# EAGLE library part AD7357 (library BeaverBoard)
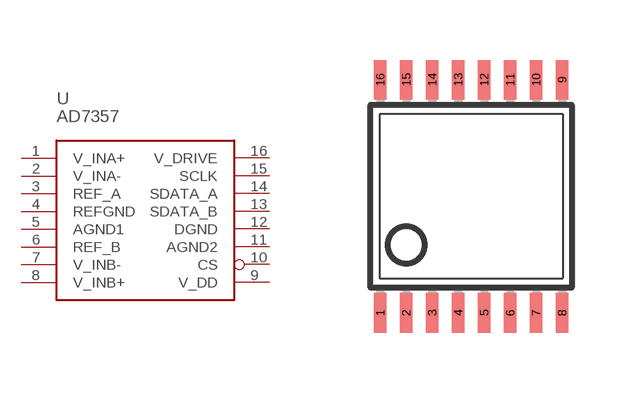
[diagram p3: symbol with the pads of TSSOP16; footprint TSSOP16]

Designator prefix -

## AD7357  [TSSOP16]
1  V_INA+  in
2  V_INA-  in
3  REF_A  in
4  REFGND  sup
5  AGND1  sup
6  REF_B  in
7  V_INB-  in
8  V_INB+  in
9  V_DD  sup
10  CS  in
11  AGND2  sup
12  DGND  sup
13  SDATA_B  out
14  SDATA_A  out
15  SCLK  in
16  V_DRIVE  sup

## Footprint TSSOP16 (pad centres in mm)
Thin Shrink Small Outline Plastic 16 MAX3223-MAX3243.pdf
smd 0.305 x 0.991: 1 -2.275,-2.918; 2 -1.625,-2.918; 3 -0.975,-2.918; 4 -0.325,-2.918; 5 0.325,-2.918; 6 0.975,-2.918; 7 1.625,-2.918; 8 2.275,-2.918; 9 2.275,2.918; 10 1.625,2.918; 11 0.975,2.918; 12 0.325,2.918; 13 -0.325,2.918; 14 -0.975,2.918; 15 -1.625,2.918; 16 -2.275,2.918